# Altium footprint library PCBLibrary.PcbLib: 61 footprints (part 2 of 4)
Each footprint in its own frame and in the unit in brackets; x right, y up, seen from the top. Pads: shape width x height; smd on the part's side, far side on the other; paste and mask are expansions set on the pad; w line width, h text height; cw(c..) or ccw(c..) is an arc to the next point about the centre after c.
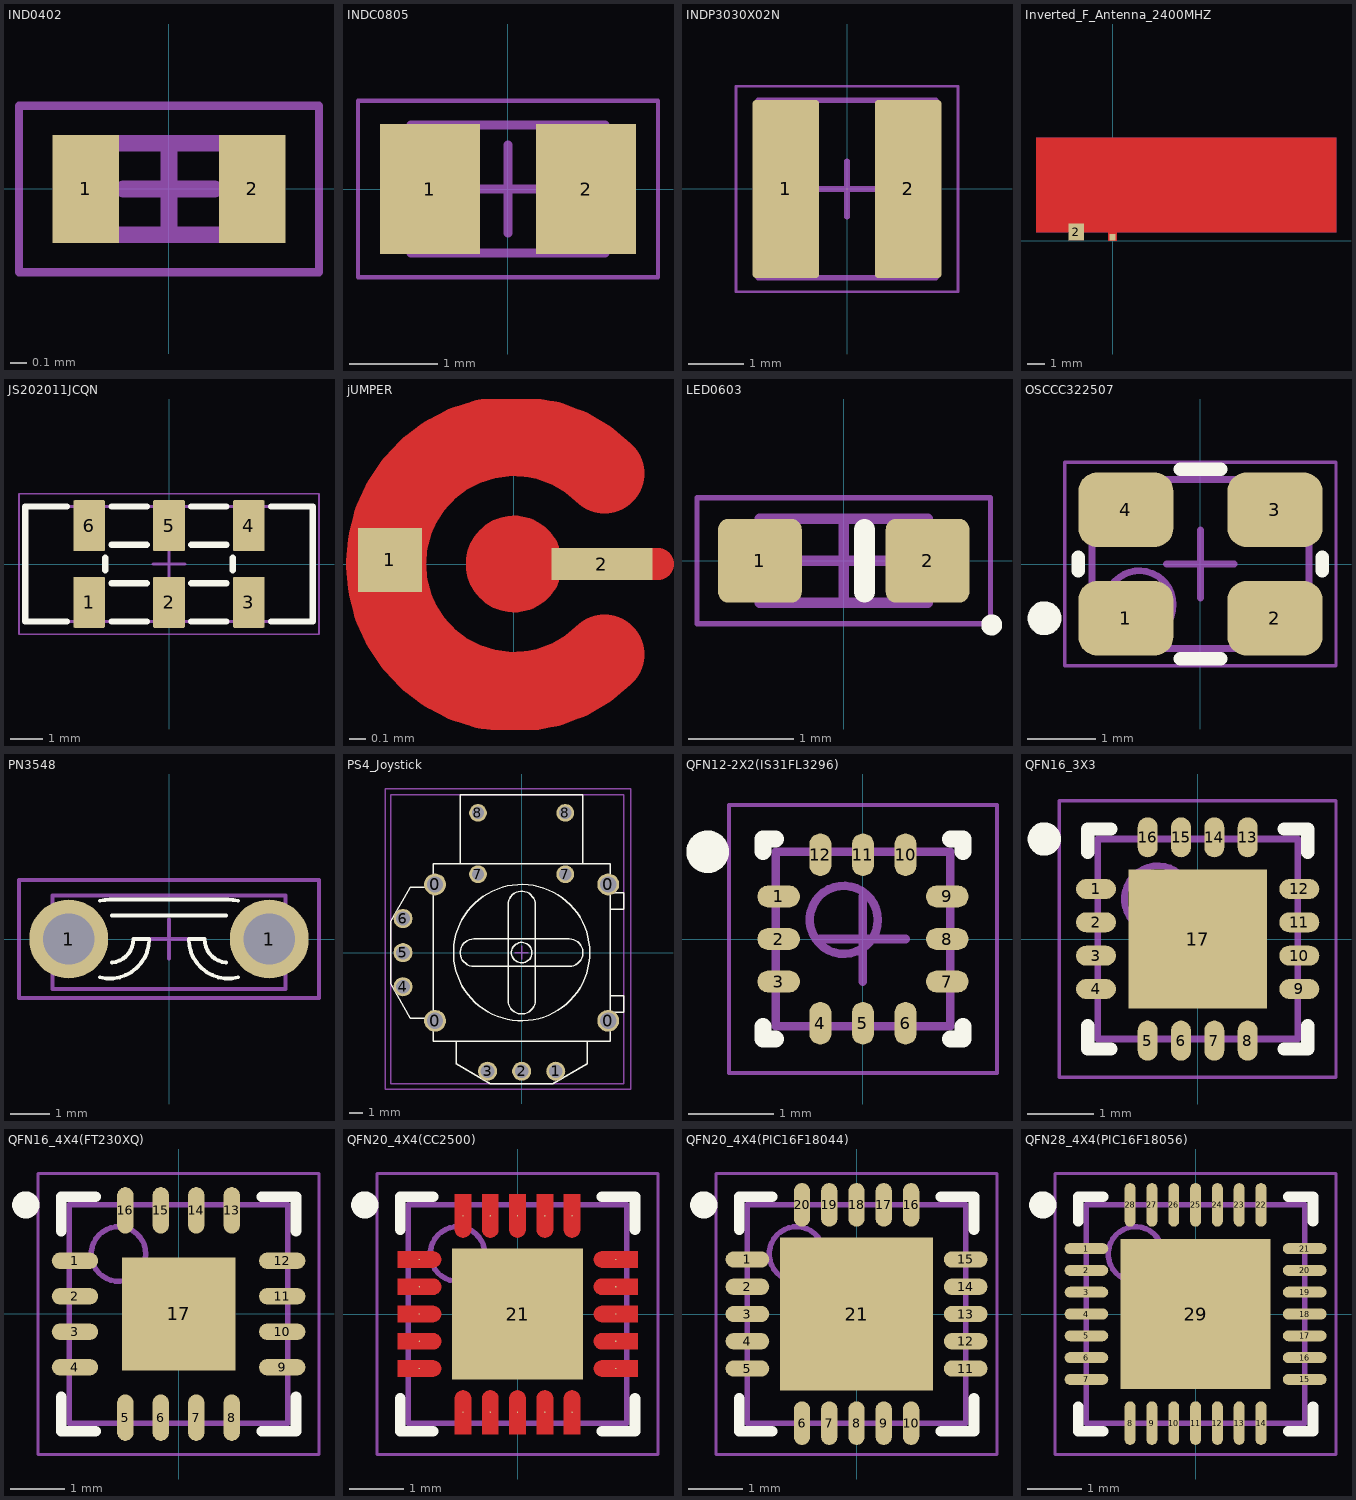
[diagram p1: the footprints below, top view; thin cyan lines are the x and y axes]

## IND0402 [mm] "Chip Inductor, 2-Leads, Body 1.00x0.50mm, IPC Medium Density"
height 0.55
pads (2):
  rect 0.4x0.65 smd: 1(-0.5,0) 2(0.5,0)
Mechanical 13:
  lines w0.1: -0.525,-0.275 0.525,-0.275 0.525,0.275 -0.525,0.275 -0.525,-0.275
Mechanical 15:
  lines w0.05: -0.9,-0.5 0.9,-0.5 0.9,0.5 -0.9,0.5 -0.9,-0.5
  lines w0.1: -0.275,0 0.275,0 ; 0,-0.275 0,0.275
3D body "IND0402.step": height 0.55, standoff 0, extent -0.525,-0.275 0.525,0.275

## INDC0805 [mm] "Chip Inductor, 2-Leads, Body 2.00x1.25mm, IPC Medium Density, CBC2012T2R2M"
height 1.45
pads (2):
  rect 1.13x1.47 smd: 1(-0.885,0) 2(0.885,0)
Mechanical 13:
  lines w0.1: -1.1,-0.725 -1.1,0.725 1.1,0.725 1.1,-0.725 -1.1,-0.725
Mechanical 15:
  lines w0.05: -1.7,-1 -1.7,1 1.7,1 1.7,-1 -1.7,-1
  lines w0.1: -0.5,0 0.5,0 ; 0,-0.5 0,0.5
3D body "INDC0805.step": height 1.45, standoff 0, extent -1.1,-0.725 1.1,0.725

## INDP3030X02N [mm] "Precision Wire Wound Inductor, 2-Leads, Body 3.00x3.00mm, IPC Medium Density"
height 0.2
pads (2):
  rrect10% 1.2x3.2 smd: 1(-1.1,0) 2(1.1,0)
Mechanical 13:
  lines w0.1: -1.6,-1.6 -1.6,1.6 1.6,1.6 1.6,-1.6 -1.6,-1.6
Mechanical 15:
  lines w0.05: -2,-1.85 -2,1.85 2,1.85 2,-1.85 -2,-1.85
  lines w0.1: -0.5,0 0.5,0 ; 0,-0.5 0,0.5
3D body "LQH3NPN2R2MJRL.step": height 1.2, standoff 0, extent -1.5,-1.5 1.5,1.5

## Inverted_F_Antenna_2400MHZ [mm]
pads (2):
  rect 0.37x0.37 smd paste-2539.97 mask+0.102: 1(0,0.2)
  rect 0.9x1 smd paste-2539.97 mask+0.102: 2(-2.1,0.5)
Top Layer:
  pour cut-out: -4.45,0.5 13,0.5 13,6 -4.45,6
  region: 11.35,0.96 11.35,4.9 11.85,4.9 11.85,0.96
  region: 9.15,4.9 11.85,4.9 11.85,5.4 9.15,5.4
  region: 9.15,2.26 9.65,2.26 9.65,4.9 9.15,4.9
  region: 7.15,2.26 9.15,2.26 9.15,2.76 7.15,2.76
  region: 6.65,2.26 7.15,2.26 7.15,4.9 6.65,4.9
  region: 4.45,4.9 7.15,4.9 7.15,5.4 4.45,5.4
  region: 2.45,2.26 4.45,2.26 4.45,2.76 2.45,2.76
  region: 4.45,2.26 4.95,2.26 4.95,4.9 4.45,4.9
  region: 1.95,2.26 2.45,2.26 2.45,4.9 1.95,4.9
  region: -2.55,4.9 2.45,4.9 2.45,5.4 -2.55,5.4
  region: -1.65,0.75 -2.55,0.75 -2.55,4.9 -1.65,4.9
  region: -0.25,0 0.25,0 0.25,4.9 -0.25,4.9
Int1 (GND):
  pour cut-out: -4.45,0.5 13,0.5 13,6 -4.45,6
Int2 (PWR):
  pour cut-out: -4.45,0.515 13,0.515 13,6.015 -4.45,6.015
Bottom Layer:
  pour cut-out: -4.45,0.5 13,0.5 13,6 -4.45,6

## JS202011JCQN [mm]
pads (6):
  rrect10% 1x1.6 smd: 1(-2.5,-1.2) 2(0,-1.2) 3(2.5,-1.2) 4(2.5,1.2) 5(0,1.2) 6(-2.5,1.2)
Top Overlay:
  lines w0.2: -3.2,-1.8 -4.5,-1.8 -4.5,1.8 -3.2,1.8 ; -2,-0.2 -2,0.2 ; -1.8,-1.8 -0.7,-1.8 ; -1.8,-0.6 -0.7,-0.6 ; -1.8,0.6 -0.7,0.6 ; -1.8,1.8 -0.7,1.8 ; 0.7,-1.8 1.8,-1.8 ; 0.7,-0.6 1.8,-0.6 ; 0.7,0.6 1.8,0.6 ; 0.7,1.8 1.8,1.8 ; 2,-0.2 2,0.2 ; 3.2,-1.8 4.5,-1.8 4.5,1.8 3.2,1.8
Mechanical 13:
  lines w0.1: -4.5,-1.8 -4.5,1.8 4.5,1.8 4.5,-1.8 -4.5,-1.8
Mechanical 15:
  lines w0.05: -4.7,-2.2 -4.7,2.2 4.7,2.2 4.7,-2.2 -4.7,-2.2
  lines w0.1: -0.5,0 0.5,0 ; 0,-0.5 0,0.5
3D body "JS202011JCQN.stp": height 5.61, standoff 0.01, extent -4.5,-1.8 4.5,1.8

## jUMPER [mm]
pads (2):
  rect 0.4x0.4 smd: 1(-0.775,0.025)
  rect 0.63x0.2 smd: 2(0.55,0)
Top Layer:
  circle w0.254: c0,0 r0.175
  lines w0.2: 0,0 0.9,0
  lines w0.5: 0.566,-0.566 cw(c0,0) 0.566,0.566
Top Solder:
  circle w1: c0,0 r0.5

## LED0603 [mm] "Chip Diode, 2-Leads, Body 1.60x0.80mm, IPC Medium Density"
height 0.6
pads (2):
  rrect25% 0.8x0.8 smd: 1(-0.8,0) 2(0.8,0)
Top Overlay:
  circle w0.1: c1.412,-0.612 r0.05
  lines w0.2: 0.2,-0.3 0.2,0.3
Mechanical 13:
  lines w0.1: -0.8,-0.4 -0.8,0.4 0.8,0.4 0.8,-0.4 -0.8,-0.4
Mechanical 15:
  lines w0.05: -1.4,-0.6 -1.4,0.6 1.4,0.6 1.4,-0.6 -1.4,-0.6
  lines w0.1: -0.4,0 0.4,0 ; 0,-0.4 0,0.4
3D body "0603 Chip SMD LED (1.6x0.8mm).STEP": height 0.55, standoff -0.03, extent -0.8,-0.4 0.8,0.4

## OSCCC322507 [mm]
height 0.7
pads (4):
  rrect50% 1.4x1.1 smd: 1(-1.1,-0.8) 2(1.1,-0.8) 3(1.1,0.8) 4(-1.1,0.8)
Top Overlay:
  circle w0.25: c-2.3,-0.8 r0.125
  lines w0.2: -1.8,-0.1 -1.8,0.1 ; -0.3,-1.4 0.3,-1.4 ; -0.3,1.4 0.3,1.4 ; 1.8,-0.1 1.8,0.1
Mechanical 13:
  circle w0.1: c-0.9,-0.6 r0.5
  lines w0.1: -1.6,-1.245 1.6,-1.245 1.6,1.245 -1.6,1.245 -1.6,-1.245
Mechanical 15:
  lines w0.05: -2,-1.5 2,-1.5 2,1.5 -2,1.5 -2,-1.5
  lines w0.1: -0.5,0 0.5,0 ; 0,-0.5 0,0.5
3D body "ABM8G.STEP": height 0.99, standoff 0, extent -1.6,-1.245 1.6,1.245

## PN3548 [mm] "CONN QC RCPT 0.187 SOLDER"
pads (2):
  round 2 hole 1.3 unplated: 1(-2.54,0) 1(2.54,0)
Top Overlay:
  lines w0.1: -1.748,-0.969 ccw(c-1.5,0) -0.5,0 -0.9,0 cw(c-1.5,0) -1.44,-0.597 ; -1.748,0.969 cw(c-1.5,0) -1.5,1 1.5,1 cw(c1.5,0) 1.748,0.969 ; -1.442,0.6 1.442,0.6 ; 1.44,-0.597 cw(c1.5,0) 0.9,0 0.5,0 ccw(c1.5,0) 1.748,-0.969
Mechanical 13:
  lines w0.1: -2.946,-1.262 2.946,-1.262 2.946,1.1 -2.946,1.1 -2.946,-1.262
Mechanical 15:
  lines w0.1: -0.5,0 0.5,0 ; 0,-0.5 0,0.5 ; -3.8,-1.5 3.8,-1.5 3.8,1.5 -3.8,1.5 -3.8,-1.5
3D body "keystone-PN3548.STEP": height 7.01, standoff -3.81, extent -2.946,-1.262 2.946,1.1

## PS4_Joystick [mm] "GINFULL hell effect Joystick"
height 19.5
pads (14):
  round 1.6 hole 1.2: 0(-6.35,-5) 0(-6.35,5) 0(6.35,-5) 0(6.35,5)
  round 1.4 hole 1: 1(2.5,-8.7) 2(0,-8.7) 3(-2.5,-8.7) 4(-8.7,-2.5) 5(-8.7,0) 6(-8.7,2.5)
  round 1.3 hole 0.9: 7(-3.2,5.75) 7(3.2,5.75) 8(-3.2,10.25) 8(3.2,10.25)
Top Overlay:
  circle w0.1: c0,0 r5
  circle w0.1: c0,0 r0.75
  lines w0.1: -6.5,-4.8 -8.157,-4.8 -9.6,-2.3 -9.6,2.3 -8.157,4.8 -6.5,4.8 ; -4.8,-6.5 -4.8,-8.157 -2.3,-9.6 2.3,-9.6 4.8,-8.157 4.8,-6.5 ; -4.5,6.5 -4.5,11.575 4.5,11.575 4.5,6.5 ; 6.5,-4.375 7.5,-4.375 7.5,-3.175 6.5,-3.175 ; 6.5,3.175 7.5,3.175 7.5,4.375 6.5,4.375 ; -6.5,-6.5 6.5,-6.5 6.5,6.5 -6.5,6.5 -6.5,-6.5 ; -3.5,-1 cw(c-3.5,0) -3.5,1 3.5,1 cw(c3.5,0) 3.5,-1 -3.5,-1 ; -1,-3.5 ccw(c0,-3.5) 1,-3.5 1,3.5 ccw(c0,3.5) -1,3.5 -1,-3.5
Mechanical 13:
  lines w0.1: -9.6,-9.6 7.5,-9.6 7.5,11.575 -9.6,11.575 -9.6,-9.6
Mechanical 15:
  lines w0.1: -0.5,0 0.5,0 ; 0,-0.5 0,0.5 ; -10,-10 -10,12 8,12 8,-10 -10,-10
3D body "JoyStick_BoundingBox.STEP": height 19.5, standoff -2.5, extent -9.6,-9.6 7.5,11.575

## QFN12-2X2(IS31FL3296) [mm] "QFN, 12-Leads, Body 2.00x2.00mm, Pitch 0.50mm, IPC Medium Density"
height 0.6
pads (12):
  oval 0.5x0.26 smd: 1(-0.99,0.5) 2(-0.99,0) 3(-0.99,-0.5) 7(0.99,-0.5) 8(0.99,0) 9(0.99,0.5)
  oval 0.26x0.5 smd: 4(-0.5,-0.99) 5(0,-0.99) 6(0.5,-0.99) 10(0.5,0.99) 11(0,0.99) 12(-0.5,0.99)
Top Overlay:
  circle w0.25: c-1.825,1.025 r0.125
  lines w0.2: -1.175,-1.03 -1.175,-1.175 -1.03,-1.175 ; -1.175,1.03 -1.175,1.175 -1.03,1.175 ; 1.03,-1.175 1.175,-1.175 1.175,-1.03 ; 1.03,1.175 1.175,1.175 1.175,1.03
Mechanical 13:
  circle w0.1: c-0.225,0.225 r0.4
  lines w0.1: -1.025,-1.025 1.025,-1.025 1.025,1.025 -1.025,1.025 -1.025,-1.025
Mechanical 15:
  lines w0.05: -1.575,-1.575 1.575,-1.575 1.575,1.575 -1.575,1.575 -1.575,-1.575
  lines w0.1: -0.5,0 0.5,0 ; 0,-0.5 0,0.5
3D body "QFN12-2X2(IS31FL3296).step": height 0.6, standoff 0, extent -1.026,-1.026 1.026,1.026

## QFN16_3X3 [mm] "QFN, 16-Leads, Body 3.00x3.00mm, Pitch 0.50mm, Thermal Pad 2.08x2.08mm, IPC Medium Density"
height 1
pads (17):
  oval 0.6x0.3 smd: 1(-1.525,0.75) 2(-1.525,0.25) 3(-1.525,-0.25) 4(-1.525,-0.75) 9(1.525,-0.75) 10(1.525,-0.25) 11(1.525,0.25) 12(1.525,0.75)
  oval 0.3x0.6 smd: 5(-0.75,-1.525) 6(-0.25,-1.525) 7(0.25,-1.525) 8(0.75,-1.525) 13(0.75,1.525) 14(0.25,1.525) 15(-0.25,1.525) 16(-0.75,1.525)
  rect 2.08x2.08 smd paste-1.04: 17(0,0)
Top Overlay:
  circle w0.25: c-2.3,1.5 r0.125
  lines w0.2: -1.65,-1.3 -1.65,-1.65 -1.3,-1.65 ; -1.65,1.3 -1.65,1.65 -1.3,1.65 ; 1.3,-1.65 1.65,-1.65 1.65,-1.3 ; 1.3,1.65 1.65,1.65 1.65,1.3
Top Paste:
  region: -0.9,0.8 -0.9,0.82 -0.885,0.857 -0.857,0.885 -0.82,0.9 -0.8,0.9 -0.3,0.9 -0.28,0.9 -0.243,0.885 -0.215,0.857 -0.2,0.82 -0.2,0.8 -0.2,0.3 -0.2,0.28 -0.215,0.243 -0.243,0.215 -0.28,0.2 -0.3,0.2 -0.8,0.2 -0.82,0.2 -0.857,0.215 -0.885,0.243 -0.9,0.28 -0.9,0.3
  region: -0.8,-0.9 -0.82,-0.9 -0.857,-0.885 -0.885,-0.857 -0.9,-0.82 -0.9,-0.8 -0.9,-0.3 -0.9,-0.28 -0.885,-0.243 -0.857,-0.215 -0.82,-0.2 -0.8,-0.2 -0.3,-0.2 -0.28,-0.2 -0.243,-0.215 -0.215,-0.243 -0.2,-0.28 -0.2,-0.3 -0.2,-0.8 -0.2,-0.82 -0.215,-0.857 -0.243,-0.885 -0.28,-0.9 -0.3,-0.9
  region: 0.9,-0.8 0.9,-0.82 0.885,-0.857 0.857,-0.885 0.82,-0.9 0.8,-0.9 0.3,-0.9 0.28,-0.9 0.243,-0.885 0.215,-0.857 0.2,-0.82 0.2,-0.8 0.2,-0.3 0.2,-0.28 0.215,-0.243 0.243,-0.215 0.28,-0.2 0.3,-0.2 0.8,-0.2 0.82,-0.2 0.857,-0.215 0.885,-0.243 0.9,-0.28 0.9,-0.3
  region: 0.8,0.9 0.82,0.9 0.857,0.885 0.885,0.857 0.9,0.82 0.9,0.8 0.9,0.3 0.9,0.28 0.885,0.243 0.857,0.215 0.82,0.2 0.8,0.2 0.3,0.2 0.28,0.2 0.243,0.215 0.215,0.243 0.2,0.28 0.2,0.3 0.2,0.8 0.2,0.82 0.215,0.857 0.243,0.885 0.28,0.9 0.3,0.9
Mechanical 13:
  circle w0.1: c-0.6,0.6 r0.5
  lines w0.1: -1.5,-1.5 -1.5,1.5 1.5,1.5 1.5,-1.5 -1.5,-1.5
Mechanical 15:
  lines w0.05: -2.075,-2.075 -2.075,2.075 2.075,2.075 2.075,-2.075 -2.075,-2.075
  lines w0.1: -0.5,0 0.5,0 ; 0,-0.5 0,0.5
3D body "QFN16_3X3.step": height 1, standoff 0, extent -1.5,-1.5 1.5,1.5

## QFN16_4X4(FT230XQ) [mm] "QFN, 16-Leads, Body 4.00x4.00mm, Pitch 0.65mm, Thermal Pad 2.08x2.08mm, IPC Medium Density"
height 0.8
pads (17):
  oval 0.85x0.3 smd: 1(-1.9,0.975) 2(-1.9,0.325) 3(-1.9,-0.325) 4(-1.9,-0.975) 9(1.9,-0.975) 10(1.9,-0.325) 11(1.9,0.325) 12(1.9,0.975)
  oval 0.3x0.85 smd: 5(-0.975,-1.9) 6(-0.325,-1.9) 7(0.325,-1.9) 8(0.975,-1.9) 13(0.975,1.9) 14(0.325,1.9) 15(-0.325,1.9) 16(-0.975,1.9)
  rect 2.08x2.08 smd: 17(0,0)
Top Overlay:
  circle w0.25: c-2.8,2 r0.125
  lines w0.2: -2.15,-1.525 -2.15,-2.15 -1.525,-2.15 ; -2.15,1.525 -2.15,2.15 -1.525,2.15 ; 1.525,-2.15 2.15,-2.15 2.15,-1.525 ; 1.525,2.15 2.15,2.15 2.15,1.525
Mechanical 13:
  circle w0.1: c-1.1,1.1 r0.5
  lines w0.1: -2,-2 -2,2 2,2 2,-2 -2,-2
Mechanical 15:
  lines w0.05: -2.575,-2.575 -2.575,2.575 2.575,2.575 2.575,-2.575 -2.575,-2.575
  lines w0.1: -0.5,0 0.5,0 ; 0,-0.5 0,0.5
3D body "QFN16_4X4(FT230XQ).step": height 0.8, standoff 0, extent -2,-2 2,2

## QFN20_4X4(CC2500) [mil] "QFN, 20-Leads, Body 4.00x4.00mm, Pitch 0.50mm, Thermal Pad 2.80x2.80mm, IPC Medium Density"
height 39.37
pads (21):
  round 1 smd: 1(-70.87,39.37) 2(-70.87,19.68) 3(-70.87,0) 4(-70.87,-19.68) 5(-70.87,-39.37) 6(-39.37,-70.87) 7(-19.68,-70.87) 8(0,-70.87) 9(19.68,-70.87) 10(39.37,-70.87) 11(70.87,-39.37) 12(70.87,-19.68) 13(70.87,0) 14(70.87,19.68) 15(70.87,39.37) 16(39.37,70.87) 17(19.68,70.87) 18(0,70.87) 19(-19.68,70.87) 20(-39.37,70.87)
  rect 94.49x94.49 smd paste-47.24: 21(0,0)
Top Layer:
  region: 55.12,-39.37 55.12,-38.79 55.34,-37.65 55.79,-36.57 56.44,-35.61 57.26,-34.78 58.23,-34.14 59.3,-33.69 60.44,-33.46 61.02,-33.46 86.61,-33.46 86.61,-45.28 61.02,-45.28 60.44,-45.28 59.3,-45.05 58.23,-44.6 57.26,-43.96 56.44,-43.13 55.79,-42.17 55.34,-41.09 55.12,-39.95
  region: 55.12,19.68 55.12,20.27 55.34,21.41 55.79,22.48 56.44,23.45 57.26,24.27 58.23,24.92 59.3,25.36 60.44,25.59 61.02,25.59 86.61,25.59 86.61,13.78 61.02,13.78 60.44,13.78 59.3,14.01 58.23,14.45 57.26,15.1 56.44,15.92 55.79,16.89 55.34,17.96 55.12,19.1
  region: 55.12,0 55.12,0.58 55.34,1.72 55.79,2.8 56.44,3.76 57.26,4.59 58.23,5.23 59.3,5.68 60.44,5.91 61.02,5.91 86.61,5.91 86.61,-5.91 61.02,-5.91 60.44,-5.91 59.3,-5.68 58.23,-5.23 57.26,-4.59 56.44,-3.76 55.79,-2.8 55.34,-1.72 55.12,-0.58
  region: 55.12,-19.68 55.12,-19.1 55.34,-17.96 55.79,-16.89 56.44,-15.92 57.26,-15.1 58.23,-14.45 59.3,-14.01 60.44,-13.78 61.02,-13.78 86.61,-13.78 86.61,-25.59 61.02,-25.59 60.44,-25.59 59.3,-25.36 58.23,-24.92 57.26,-24.27 56.44,-23.45 55.79,-22.48 55.34,-21.41 55.12,-20.27
  region: 55.12,39.37 55.12,39.95 55.34,41.09 55.79,42.17 56.44,43.13 57.26,43.96 58.23,44.6 59.3,45.05 60.44,45.28 61.02,45.28 86.61,45.28 86.61,33.46 61.02,33.46 60.44,33.46 59.3,33.69 58.23,34.14 57.26,34.78 56.44,35.61 55.79,36.57 55.34,37.65 55.12,38.79
  region: -39.37,-55.12 -38.79,-55.12 -37.65,-55.34 -36.57,-55.79 -35.61,-56.44 -34.78,-57.26 -34.14,-58.23 -33.69,-59.3 -33.46,-60.44 -33.46,-61.02 -33.46,-86.61 -45.28,-86.61 -45.28,-61.02 -45.28,-60.44 -45.05,-59.3 -44.6,-58.23 -43.96,-57.26 -43.13,-56.44 -42.17,-55.79 -41.09,-55.34 -39.95,-55.12
  region: 19.68,-55.12 20.27,-55.12 21.41,-55.34 22.48,-55.79 23.45,-56.44 24.27,-57.26 24.92,-58.23 25.36,-59.3 25.59,-60.44 25.59,-61.02 25.59,-86.61 13.78,-86.61 13.78,-61.02 13.78,-60.44 14.01,-59.3 14.45,-58.23 15.1,-57.26 15.92,-56.44 16.89,-55.79 17.96,-55.34 19.1,-55.12
  region: 0,-55.12 0.58,-55.12 1.72,-55.34 2.8,-55.79 3.76,-56.44 4.59,-57.26 5.23,-58.23 5.68,-59.3 5.91,-60.44 5.91,-61.02 5.91,-86.61 -5.91,-86.61 -5.91,-61.02 -5.91,-60.44 -5.68,-59.3 -5.23,-58.23 -4.59,-57.26 -3.76,-56.44 -2.8,-55.79 -1.72,-55.34 -0.58,-55.12
  region: -19.68,-55.12 -19.1,-55.12 -17.96,-55.34 -16.89,-55.79 -15.92,-56.44 -15.1,-57.26 -14.45,-58.23 -14.01,-59.3 -13.78,-60.44 -13.78,-61.02 -13.78,-86.61 -25.59,-86.61 -25.59,-61.02 -25.59,-60.44 -25.36,-59.3 -24.92,-58.23 -24.27,-57.26 -23.45,-56.44 -22.48,-55.79 -21.41,-55.34 -20.27,-55.12
  region: 39.37,-55.12 39.95,-55.12 41.09,-55.34 42.17,-55.79 43.13,-56.44 43.96,-57.26 44.6,-58.23 45.05,-59.3 45.28,-60.44 45.28,-61.02 45.28,-86.61 33.46,-86.61 33.46,-61.02 33.46,-60.44 33.69,-59.3 34.14,-58.23 34.78,-57.26 35.61,-56.44 36.57,-55.79 37.65,-55.34 38.79,-55.12
  region: -55.12,39.37 -55.12,38.79 -55.34,37.65 -55.79,36.57 -56.44,35.61 -57.26,34.78 -58.23,34.14 -59.3,33.69 -60.44,33.46 -61.02,33.46 -86.61,33.46 -86.61,45.28 -61.02,45.28 -60.44,45.28 -59.3,45.05 -58.23,44.6 -57.26,43.96 -56.44,43.13 -55.79,42.17 -55.34,41.09 -55.12,39.95
  region: -55.12,-19.68 -55.12,-20.27 -55.34,-21.41 -55.79,-22.48 -56.44,-23.45 -57.26,-24.27 -58.23,-24.92 -59.3,-25.36 -60.44,-25.59 -61.02,-25.59 -86.61,-25.59 -86.61,-13.78 -61.02,-13.78 -60.44,-13.78 -59.3,-14.01 -58.23,-14.45 -57.26,-15.1 -56.44,-15.92 -55.79,-16.89 -55.34,-17.96 -55.12,-19.1
  region: -55.12,0 -55.12,-0.58 -55.34,-1.72 -55.79,-2.8 -56.44,-3.76 -57.26,-4.59 -58.23,-5.23 -59.3,-5.68 -60.44,-5.91 -61.02,-5.91 -86.61,-5.91 -86.61,5.91 -61.02,5.91 -60.44,5.91 -59.3,5.68 -58.23,5.23 -57.26,4.59 -56.44,3.76 -55.79,2.8 -55.34,1.72 -55.12,0.58
  region: -55.12,19.68 -55.12,19.1 -55.34,17.96 -55.79,16.89 -56.44,15.92 -57.26,15.1 -58.23,14.45 -59.3,14.01 -60.44,13.78 -61.02,13.78 -86.61,13.78 -86.61,25.59 -61.02,25.59 -60.44,25.59 -59.3,25.36 -58.23,24.92 -57.26,24.27 -56.44,23.45 -55.79,22.48 -55.34,21.41 -55.12,20.27
  region: -55.12,-39.37 -55.12,-39.95 -55.34,-41.09 -55.79,-42.17 -56.44,-43.13 -57.26,-43.96 -58.23,-44.6 -59.3,-45.05 -60.44,-45.28 -61.02,-45.28 -86.61,-45.28 -86.61,-33.46 -61.02,-33.46 -60.44,-33.46 -59.3,-33.69 -58.23,-34.14 -57.26,-34.78 -56.44,-35.61 -55.79,-36.57 -55.34,-37.65 -55.12,-38.79
  region: 39.37,55.12 38.79,55.12 37.65,55.34 36.57,55.79 35.61,56.44 34.78,57.26 34.14,58.23 33.69,59.3 33.46,60.44 33.46,61.02 33.46,86.61 45.28,86.61 45.28,61.02 45.28,60.44 45.05,59.3 44.6,58.23 43.96,57.26 43.13,56.44 42.17,55.79 41.09,55.34 39.95,55.12
  region: -19.68,55.12 -20.27,55.12 -21.41,55.34 -22.48,55.79 -23.45,56.44 -24.27,57.26 -24.92,58.23 -25.36,59.3 -25.59,60.44 -25.59,61.02 -25.59,86.61 -13.78,86.61 -13.78,61.02 -13.78,60.44 -14.01,59.3 -14.45,58.23 -15.1,57.26 -15.92,56.44 -16.89,55.79 -17.96,55.34 -19.1,55.12
  region: 0,55.12 -0.58,55.12 -1.72,55.34 -2.8,55.79 -3.76,56.44 -4.59,57.26 -5.23,58.23 -5.68,59.3 -5.91,60.44 -5.91,61.02 -5.91,86.61 5.91,86.61 5.91,61.02 5.91,60.44 5.68,59.3 5.23,58.23 4.59,57.26 3.76,56.44 2.8,55.79 1.72,55.34 0.58,55.12
  region: 19.68,55.12 19.1,55.12 17.96,55.34 16.89,55.79 15.92,56.44 15.1,57.26 14.45,58.23 14.01,59.3 13.78,60.44 13.78,61.02 13.78,86.61 25.59,86.61 25.59,61.02 25.59,60.44 25.36,59.3 24.92,58.23 24.27,57.26 23.45,56.44 22.48,55.79 21.41,55.34 20.27,55.12
  region: -39.37,55.12 -39.95,55.12 -41.09,55.34 -42.17,55.79 -43.13,56.44 -43.96,57.26 -44.6,58.23 -45.05,59.3 -45.28,60.44 -45.28,61.02 -45.28,86.61 -33.46,86.61 -33.46,61.02 -33.46,60.44 -33.69,59.3 -34.14,58.23 -34.78,57.26 -35.61,56.44 -36.57,55.79 -37.65,55.34 -38.79,55.12
Top Overlay:
  circle w9.84: c-110.24,78.74 r4.92
  lines w7.87: -84.65,-61.02 -84.65,-84.65 -61.02,-84.65 ; -84.65,61.02 -84.65,84.65 -61.02,84.65 ; 61.02,-84.65 84.65,-84.65 84.65,-61.02 ; 61.02,84.65 84.65,84.65 84.65,61.02
Top Paste:
  region: -7.87,3.94 -7.09,3.94 -5.64,4.54 -4.54,5.64 -3.94,7.09 -3.94,7.87 -3.94,39.37 -3.94,40.15 -4.54,41.6 -5.64,42.71 -7.09,43.31 -7.87,43.31 -39.37,43.31 -40.15,43.31 -41.6,42.71 -42.71,41.6 -43.31,40.15 -43.31,39.37 -43.31,7.87 -43.31,7.09 -42.71,5.64 -41.6,4.54 -40.15,3.94 -39.37,3.94
  region: -3.94,-7.87 -3.94,-7.09 -4.54,-5.64 -5.64,-4.54 -7.09,-3.94 -7.87,-3.94 -39.37,-3.94 -40.15,-3.94 -41.6,-4.54 -42.71,-5.64 -43.31,-7.09 -43.31,-7.87 -43.31,-39.37 -43.31,-40.15 -42.71,-41.6 -41.6,-42.71 -40.15,-43.31 -39.37,-43.31 -7.87,-43.31 -7.09,-43.31 -5.64,-42.71 -4.54,-41.6 -3.94,-40.15 -3.94,-39.37
  region: 7.87,-3.94 7.09,-3.94 5.64,-4.54 4.54,-5.64 3.94,-7.09 3.94,-7.87 3.94,-39.37 3.94,-40.15 4.54,-41.6 5.64,-42.71 7.09,-43.31 7.87,-43.31 39.37,-43.31 40.15,-43.31 41.6,-42.71 42.71,-41.6 43.31,-40.15 43.31,-39.37 43.31,-7.87 43.31,-7.09 42.71,-5.64 41.6,-4.54 40.15,-3.94 39.37,-3.94
  region: 3.94,7.87 3.94,7.09 4.54,5.64 5.64,4.54 7.09,3.94 7.87,3.94 39.37,3.94 40.15,3.94 41.6,4.54 42.71,5.64 43.31,7.09 43.31,7.87 43.31,39.37 43.31,40.15 42.71,41.6 41.6,42.71 40.15,43.31 39.37,43.31 7.87,43.31 7.09,43.31 5.64,42.71 4.54,41.6 3.94,40.15 3.94,39.37
Mechanical 13:
  circle w3.94: c-43.31,43.31 r19.68
  lines w3.94: -78.74,-78.74 78.74,-78.74 78.74,78.74 -78.74,78.74 -78.74,-78.74
Mechanical 15:
  lines w1.97: -101.38,-101.38 101.38,-101.38 101.38,101.38 -101.38,101.38 -101.38,-101.38
  lines w3.94: -19.69,0 19.68,0 ; 0,-19.68 0,19.69
3D body "QFN20_4X4(PIC16F18044.step": height 39.37, standoff -0.04, extent -78.78,-78.78 78.78,78.78

## QFN20_4X4(PIC16F18044) [mm] "QFN, 20-Leads, Body 4.00x4.00mm, Pitch 0.50mm, Thermal Pad 2.80x2.80mm, IPC Medium Density"
height 1
pads (21):
  oval 0.8x0.3 smd: 1(-2,1) 2(-2,0.5) 3(-2,0) 4(-2,-0.5) 5(-2,-1) 11(2,-1) 12(2,-0.5) 13(2,0) 14(2,0.5) 15(2,1)
  oval 0.3x0.8 smd: 6(-1,-2) 7(-0.5,-2) 8(0,-2) 9(0.5,-2) 10(1,-2) 16(1,2) 17(0.5,2) 18(0,2) 19(-0.5,2) 20(-1,2)
  rect 2.8x2.8 smd paste-1.4: 21(0,0)
Top Overlay:
  circle w0.25: c-2.8,2 r0.125
  lines w0.2: -2.15,-1.55 -2.15,-2.15 -1.55,-2.15 ; -2.15,1.55 -2.15,2.15 -1.55,2.15 ; 1.55,-2.15 2.15,-2.15 2.15,-1.55 ; 1.55,2.15 2.15,2.15 2.15,1.55
Top Paste:
  region: -1.3,1.2 -1.3,1.22 -1.285,1.257 -1.257,1.285 -1.22,1.3 -1.2,1.3 -0.3,1.3 -0.28,1.3 -0.243,1.285 -0.215,1.257 -0.2,1.22 -0.2,1.2 -0.2,0.3 -0.2,0.28 -0.215,0.243 -0.243,0.215 -0.28,0.2 -0.3,0.2 -1.2,0.2 -1.22,0.2 -1.257,0.215 -1.285,0.243 -1.3,0.28 -1.3,0.3
  region: -1.2,-1.3 -1.22,-1.3 -1.257,-1.285 -1.285,-1.257 -1.3,-1.22 -1.3,-1.2 -1.3,-0.3 -1.3,-0.28 -1.285,-0.243 -1.257,-0.215 -1.22,-0.2 -1.2,-0.2 -0.3,-0.2 -0.28,-0.2 -0.243,-0.215 -0.215,-0.243 -0.2,-0.28 -0.2,-0.3 -0.2,-1.2 -0.2,-1.22 -0.215,-1.257 -0.243,-1.285 -0.28,-1.3 -0.3,-1.3
  region: 1.3,-1.2 1.3,-1.22 1.285,-1.257 1.257,-1.285 1.22,-1.3 1.2,-1.3 0.3,-1.3 0.28,-1.3 0.243,-1.285 0.215,-1.257 0.2,-1.22 0.2,-1.2 0.2,-0.3 0.2,-0.28 0.215,-0.243 0.243,-0.215 0.28,-0.2 0.3,-0.2 1.2,-0.2 1.22,-0.2 1.257,-0.215 1.285,-0.243 1.3,-0.28 1.3,-0.3
  region: 1.2,1.3 1.22,1.3 1.257,1.285 1.285,1.257 1.3,1.22 1.3,1.2 1.3,0.3 1.3,0.28 1.285,0.243 1.257,0.215 1.22,0.2 1.2,0.2 0.3,0.2 0.28,0.2 0.243,0.215 0.215,0.243 0.2,0.28 0.2,0.3 0.2,1.2 0.2,1.22 0.215,1.257 0.243,1.285 0.28,1.3 0.3,1.3
Mechanical 13:
  circle w0.1: c-1.1,1.1 r0.5
  lines w0.1: -2,-2 -2,2 2,2 2,-2 -2,-2
Mechanical 15:
  lines w0.05: -2.575,-2.575 -2.575,2.575 2.575,2.575 2.575,-2.575 -2.575,-2.575
  lines w0.1: -0.5,0 0.5,0 ; 0,-0.5 0,0.5
3D body "QFN20_4X4(PIC16F18044.step": height 1, standoff 0, extent -2.001,-2.001 2.001,2.001

## QFN28_4X4(PIC16F18056) [mm] "QFN, 28-Leads, Body 4.00x4.00mm, Pitch 0.40mm, Thermal Pad 2.75x2.75mm, IPC Medium Density"
height 1
pads (29):
  oval 0.8x0.2 smd: 1(-2,1.2) 2(-2,0.8) 3(-2,0.4) 4(-2,0) 5(-2,-0.4) 6(-2,-0.8) 7(-2,-1.2) 15(2,-1.2) 16(2,-0.8) 17(2,-0.4) 18(2,0) 19(2,0.4) 20(2,0.8) 21(2,1.2)
  oval 0.2x0.8 smd: 8(-1.2,-2) 9(-0.8,-2) 10(-0.4,-2) 11(0,-2) 12(0.4,-2) 13(0.8,-2) 14(1.2,-2) 22(1.2,2) 23(0.8,2) 24(0.4,2) 25(0,2) 26(-0.4,2) 27(-0.8,2) 28(-1.2,2)
  rect 2.75x2.75 smd paste-2539.97: 29(0,0)
Top Overlay:
  circle w0.25: c-2.8,2 r0.125
  lines w0.2: -2.15,-1.7 -2.15,-2.15 -1.7,-2.15 ; -2.15,1.7 -2.15,2.15 -1.7,2.15 ; 1.7,-2.15 2.15,-2.15 2.15,-1.7 ; 1.7,2.15 2.15,2.15 2.15,1.7
Top Paste:
  region: -1.3,1.2 -1.3,1.22 -1.285,1.257 -1.257,1.285 -1.22,1.3 -1.2,1.3 -0.3,1.3 -0.28,1.3 -0.243,1.285 -0.215,1.257 -0.2,1.22 -0.2,1.2 -0.2,0.3 -0.2,0.28 -0.215,0.243 -0.243,0.215 -0.28,0.2 -0.3,0.2 -1.2,0.2 -1.22,0.2 -1.257,0.215 -1.285,0.243 -1.3,0.28 -1.3,0.3
  region: -1.2,-1.3 -1.22,-1.3 -1.257,-1.285 -1.285,-1.257 -1.3,-1.22 -1.3,-1.2 -1.3,-0.3 -1.3,-0.28 -1.285,-0.243 -1.257,-0.215 -1.22,-0.2 -1.2,-0.2 -0.3,-0.2 -0.28,-0.2 -0.243,-0.215 -0.215,-0.243 -0.2,-0.28 -0.2,-0.3 -0.2,-1.2 -0.2,-1.22 -0.215,-1.257 -0.243,-1.285 -0.28,-1.3 -0.3,-1.3
  region: 1.3,-1.2 1.3,-1.22 1.285,-1.257 1.257,-1.285 1.22,-1.3 1.2,-1.3 0.3,-1.3 0.28,-1.3 0.243,-1.285 0.215,-1.257 0.2,-1.22 0.2,-1.2 0.2,-0.3 0.2,-0.28 0.215,-0.243 0.243,-0.215 0.28,-0.2 0.3,-0.2 1.2,-0.2 1.22,-0.2 1.257,-0.215 1.285,-0.243 1.3,-0.28 1.3,-0.3
  region: 1.2,1.3 1.22,1.3 1.257,1.285 1.285,1.257 1.3,1.22 1.3,1.2 1.3,0.3 1.3,0.28 1.285,0.243 1.257,0.215 1.22,0.2 1.2,0.2 0.3,0.2 0.28,0.2 0.243,0.215 0.215,0.243 0.2,0.28 0.2,0.3 0.2,1.2 0.2,1.22 0.215,1.257 0.243,1.285 0.28,1.3 0.3,1.3
Mechanical 13:
  circle w0.1: c-1.1,1.1 r0.5
  lines w0.1: -2,-2 -2,2 2,2 2,-2 -2,-2
Mechanical 15:
  lines w0.05: -2.575,-2.575 -2.575,2.575 2.575,2.575 2.575,-2.575 -2.575,-2.575
  lines w0.1: -0.5,0 0.5,0 ; 0,-0.5 0,0.5
3D body "QFN28.step": height 1, standoff 0, extent -2.001,-2.001 2.001,2.001